# Altium footprint library Modules.PcbLib: 14 footprints (part 5 of 6)
Each footprint in its own frame and in the unit in brackets; x right, y up, seen from the top. Pads: shape width x height; smd on the part's side, far side on the other; paste and mask are expansions set on the pad; w line width, h text height; cw(c..) or ccw(c..) is an arc to the next point about the centre after c.
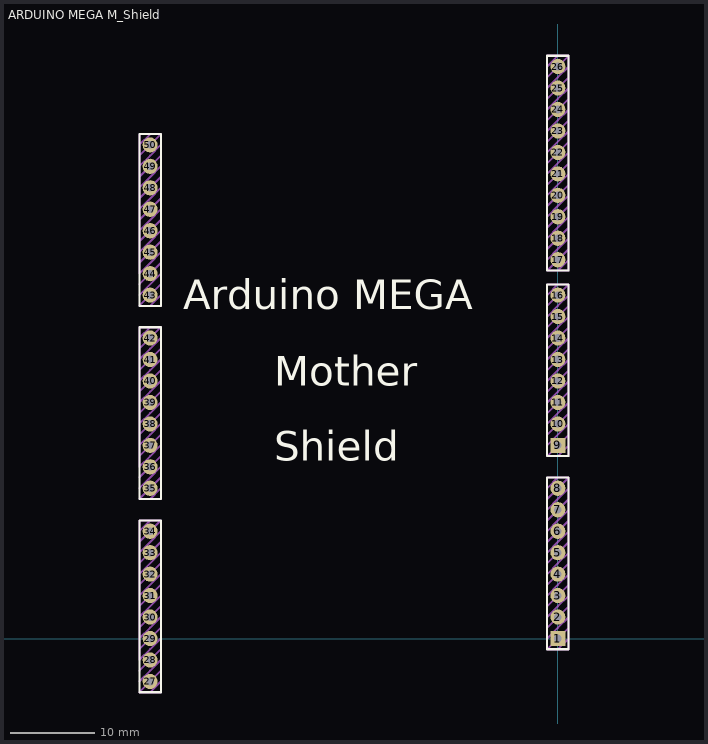
[diagram p4: the footprint, top view; thin cyan lines are the x and y axes]

## ARDUINO MEGA M_Shield [mm] "ARDUINO MEGA 2560 Full Mother Shield"
pads (50):
  rect 1.8x1.8 hole 0.9: 1(0,0) 9(0,22.86)
  round 1.8 hole 0.9: 2(0,2.54) 3(0,5.08) 4(0,7.62) 5(0,10.16) 6(0,12.7) 7(0,15.24) 8(0,17.78) 10(0,25.4) 11(0,27.94) 12(0,30.48) 13(0,33.02) 14(0,35.56) 15(0,38.1) 16(0,40.64) 17(0,44.831) 18(0,47.371) 19(0,49.911) 20(0,52.451) 21(0,54.991) 22(0,57.531) 23(0,60.071) 24(0,62.611) 25(0,65.151) 26(0,67.691) 27(-48.26,-5.08) 28(-48.26,-2.54) 29(-48.26,0) 30(-48.26,2.54) 31(-48.26,5.08) 32(-48.26,7.62) 33(-48.26,10.16) 34(-48.26,12.7) 35(-48.26,17.78) 36(-48.26,20.32) 37(-48.26,22.86) 38(-48.26,25.4) 39(-48.26,27.94) 40(-48.26,30.48) 41(-48.26,33.02) 42(-48.26,35.56) 43(-48.26,40.64) 44(-48.26,43.18) 45(-48.26,45.72) 46(-48.26,48.26) 47(-48.26,50.8) 48(-48.26,53.34) 49(-48.26,55.88) 50(-48.26,58.42)
Top Overlay:
  drawing of 313 lines, arcs and shapes, not listed
  text "Mother" at -33.59,29.91 h3.5
  text "Shield" at -33.59,21.02 h3.5
  text "Arduino MEGA" at -44.323,38.989 h3.5
Top Draw:
  drawing of 261 lines, arcs and shapes, not listed
3D body: height 8, standoff 0, extent -1.27,46.101 -0.991,48.641
3D body: height 8, standoff 0, extent -1.27,48.641 -0.991,51.181
3D body: height 8, standoff 0, extent -1.27,43.561 -0.991,46.101
3D body: height 8, standoff 0, extent -1.27,51.181 -0.991,53.721
3D body: height 8, standoff 0, extent -1.27,53.721 -0.991,56.261
3D body: height 8, standoff 7.5, extent -1.009,43.815 -0.508,45.847
3D body: height 8, standoff 7.5, extent -1.009,48.895 -0.508,50.927
3D body: height 8, standoff 7.5, extent -1.009,46.355 -0.508,48.387
3D body: height 8, standoff 7.5, extent -1.009,51.435 -0.508,53.467
3D body: height 8, standoff 7.5, extent -1.009,53.975 -0.508,56.007
3D body: height 7.5, standoff 0, extent -0.533,44.298 -0.508,45.365
3D body: height 7.5, standoff 0, extent -0.533,49.378 -0.508,50.445
3D body: height 7.5, standoff 0, extent -0.533,46.838 -0.508,47.905
3D body: height 7.5, standoff 0, extent -0.533,51.918 -0.508,52.985
3D body: height 7, standoff 0, extent -0.534,49.378 -0.483,50.445
3D body: height 7, standoff 0, extent -0.534,44.298 -0.483,45.365
3D body: height 7, standoff 0, extent -0.534,54.458 -0.483,55.525
3D body: height 7, standoff 0, extent -0.534,46.838 -0.483,47.905
3D body: height 7, standoff 0, extent -0.534,51.918 -0.483,52.985
3D body: height 7, standoff 0, extent -0.534,45.314 0.533,45.365
3D body: height 7, standoff 0, extent -0.534,50.394 0.533,50.445
3D body: height 7, standoff 0, extent -0.534,47.854 0.533,47.905
3D body: height 7, standoff 0, extent -0.534,52.934 0.533,52.985
3D body: height 7, standoff 0, extent -0.534,49.378 0.533,49.429
3D body: height 7, standoff 0, extent -0.534,44.298 0.533,44.349
3D body: height 7, standoff 0, extent -0.534,46.838 0.533,46.889
3D body: height 7, standoff 0, extent -0.534,51.918 0.533,51.969
3D body: height 7, standoff 0, extent -0.534,54.458 0.533,54.509
3D body: height 8, standoff 0, extent -1.27,56.261 -0.991,58.801
3D body: height 8, standoff 0, extent -1.27,58.801 -0.991,61.341
3D body: height 8, standoff 0, extent -1.27,61.341 -0.991,63.881
3D body: height 8, standoff 0, extent -1.27,63.881 -0.991,66.421
3D body: height 8, standoff 0, extent -1.27,66.421 -0.991,68.961
3D body: height 8, standoff 7.5, extent -1.009,56.515 -0.508,58.547
3D body: height 8, standoff 7.5, extent -1.009,61.595 -0.508,63.627
3D body: height 8, standoff 7.5, extent -1.009,64.135 -0.508,66.167
3D body: height 8, standoff 7.5, extent -1.009,59.055 -0.508,61.087
3D body: height 8, standoff 7.5, extent -1.009,66.675 -0.508,68.707
3D body: height 7.5, standoff 0, extent -0.533,54.458 -0.508,55.525
3D body: height 7.5, standoff 0, extent -0.533,59.538 -0.508,60.605
3D body: height 7.5, standoff 0, extent -0.533,56.998 -0.508,58.065
3D body: height 7.5, standoff 0, extent -0.533,62.078 -0.508,63.145
3D body: height 7.5, standoff 0, extent -0.533,64.618 -0.508,65.685
3D body: height 7.5, standoff 0, extent -0.533,67.158 -0.508,68.225
3D body: height 7, standoff 0, extent -0.534,59.538 -0.483,60.605
3D body: height 7, standoff 0, extent -0.534,56.998 -0.483,58.065
3D body: height 7, standoff 0, extent -0.534,64.618 -0.483,65.685
3D body: height 7, standoff 0, extent -0.534,62.078 -0.483,63.145
3D body: height 7, standoff 0, extent -0.534,67.158 -0.483,68.225
3D body: height 7, standoff 0, extent -0.534,55.474 0.533,55.525
3D body: height 7, standoff 0, extent -0.534,60.554 0.533,60.605
3D body: height 7, standoff 0, extent -0.534,58.014 0.533,58.065
3D body: height 7, standoff 0, extent -0.534,63.094 0.533,63.145
3D body: height 7, standoff 0, extent -0.534,65.634 0.533,65.685
3D body: height 7, standoff 0, extent -0.534,68.174 0.533,68.225
3D body: height 7, standoff 0, extent -0.534,56.998 0.533,57.049
3D body: height 7, standoff 0, extent -0.534,59.538 0.533,59.589
3D body: height 7, standoff 0, extent -0.534,62.078 0.533,62.129
3D body: height 7, standoff 0, extent -0.534,64.618 0.533,64.669
3D body: height 7, standoff 0, extent -0.534,67.158 0.533,67.209
3D body: height 1, standoff 0, extent -0.635,49.276 0.635,50.546
3D body: height 0, standoff -2.03, extent -0.127,49.657 0.127,50.165
3D body: height 0, standoff -2.03, extent -0.127,47.117 0.127,47.625
3D body: height 1, standoff 0, extent -0.635,46.736 0.635,48.006
3D body: height 0, standoff -2.03, extent -0.127,44.577 0.127,45.085
3D body: height 1, standoff 0, extent -0.635,44.196 0.635,45.466
3D body: height 0, standoff -2.03, extent -0.127,52.197 0.127,52.705
3D body: height 1, standoff 0, extent -0.635,51.816 0.635,53.086
3D body: height 1, standoff 0, extent -0.635,54.356 0.635,55.626
3D body: height 0, standoff -2.03, extent -0.127,54.737 0.127,55.245
3D body: height 7.5, standoff 0, extent -0.533,44.298 0.533,44.323
3D body: height 7.5, standoff 0, extent -0.533,49.378 0.533,49.403
3D body: height 7.5, standoff 0, extent -0.533,54.458 0.533,54.483
3D body: height 7.5, standoff 0, extent -0.533,46.838 0.533,46.863
3D body: height 8, standoff 7.5, extent -0.991,43.823 1.041,44.323
3D body: height 7, standoff 0, extent 0.482,44.298 0.533,45.365
3D body: height 7.5, standoff 0, extent -0.533,45.339 0.533,45.365
3D body: height 7.5, standoff 0, extent 0.508,44.298 0.533,45.365
3D body: height 8, standoff 0, extent 0.991,43.561 1.27,46.101
3D body: height 8, standoff 7.5, extent 0.508,43.815 1.008,45.847
3D body: height 8, standoff 7.5, extent -0.991,46.363 1.041,46.863
3D body: height 7, standoff 0, extent 0.482,46.838 0.533,47.905
3D body: height 7.5, standoff 0, extent 0.508,46.838 0.533,47.905
3D body: height 7.5, standoff 0, extent -0.533,47.879 0.533,47.905
3D body: height 8, standoff 7.5, extent -0.991,48.903 1.041,49.403
3D body: height 7, standoff 0, extent 0.482,49.378 0.533,50.445
3D body: height 7.5, standoff 0, extent -0.533,50.419 0.533,50.445
3D body: height 8, standoff 7.5, extent -0.991,51.443 1.041,51.943
3D body: height 7, standoff 0, extent 0.482,51.918 0.533,52.985
3D body: height 7.5, standoff 0, extent 0.508,51.918 0.533,52.985
3D body: height 7.5, standoff 0, extent -0.533,52.959 0.533,52.985
3D body: height 8, standoff 7.5, extent -0.991,53.983 1.041,54.483
3D body: height 7, standoff 0, extent 0.482,54.458 0.533,55.525
3D body: height 7.5, standoff 0, extent -0.533,55.499 0.533,55.525
3D body: height 8, standoff 7.5, extent -0.991,56.523 1.041,57.023
3D body: height 7, standoff 0, extent 0.482,56.998 0.533,58.065
3D body: height 7.5, standoff 0, extent -0.533,58.039 0.533,58.065
3D body: height 8, standoff 7.5, extent -0.991,59.063 1.041,59.563
3D body: height 7, standoff 0, extent 0.482,59.538 0.533,60.605
3D body: height 7.5, standoff 0, extent 0.508,59.538 0.533,60.605
3D body: height 7.5, standoff 0, extent -0.533,60.579 0.533,60.605
3D body: height 8, standoff 7.5, extent -0.991,61.603 1.041,62.103
3D body: height 7, standoff 0, extent 0.482,62.078 0.533,63.145
3D body: height 7.5, standoff 0, extent 0.508,62.078 0.533,63.145
3D body: height 7.5, standoff 0, extent -0.533,63.119 0.533,63.145
3D body: height 8, standoff 7.5, extent -0.991,64.143 1.041,64.643
3D body: height 7, standoff 0, extent 0.482,64.618 0.533,65.685
3D body: height 7.5, standoff 0, extent -0.533,65.659 0.533,65.685
3D body: height 8, standoff 7.5, extent -0.991,66.683 1.041,67.183
3D body: height 7, standoff 0, extent 0.482,67.158 0.533,68.225
3D body: height 7.5, standoff 0, extent 0.508,67.158 0.533,68.225
3D body: height 7.5, standoff 0, extent -0.533,68.199 0.533,68.225
3D body: height 8, standoff 0, extent 0.991,46.101 1.27,48.641
3D body: height 8, standoff 7.5, extent 0.508,46.355 1.008,48.387
3D body: height 7.5, standoff 0, extent 0.508,49.378 0.533,50.445
3D body: height 8, standoff 0, extent 0.991,48.641 1.27,51.181
3D body: height 8, standoff 7.5, extent 0.508,48.895 1.008,50.927
3D body: height 8, standoff 0, extent 0.991,51.181 1.27,53.721
3D body: height 8, standoff 7.5, extent 0.508,51.435 1.008,53.467
3D body: height 7.5, standoff 0, extent 0.508,54.458 0.533,55.525
3D body: height 8, standoff 0, extent 0.991,53.721 1.27,56.261
3D body: height 8, standoff 7.5, extent 0.508,53.975 1.008,56.007
3D body: height 7.5, standoff 0, extent 0.508,56.998 0.533,58.065
3D body: height 8, standoff 0, extent 0.991,56.261 1.27,58.801
3D body: height 8, standoff 7.5, extent 0.508,56.515 1.008,58.547
3D body: height 8, standoff 0, extent 0.991,58.801 1.27,61.341
3D body: height 8, standoff 7.5, extent 0.508,59.055 1.008,61.087
3D body: height 8, standoff 0, extent 0.991,61.341 1.27,63.881
3D body: height 8, standoff 7.5, extent 0.508,61.595 1.008,63.627
3D body: height 7.5, standoff 0, extent 0.508,64.618 0.533,65.685
3D body: height 8, standoff 0, extent 0.991,63.881 1.27,66.421
3D body: height 8, standoff 7.5, extent 0.508,64.135 1.008,66.167
3D body: height 8, standoff 0, extent 0.991,66.421 1.27,68.961
3D body: height 8, standoff 7.5, extent 0.508,66.675 1.008,68.707
3D body: height 0, standoff -2.03, extent -0.127,57.277 0.127,57.785
3D body: height 1, standoff 0, extent -0.635,56.896 0.635,58.166
3D body: height 1, standoff 0, extent -0.635,59.436 0.635,60.706
3D body: height 0, standoff -2.03, extent -0.127,59.817 0.127,60.325
3D body: height 0, standoff -2.03, extent -0.127,67.437 0.127,67.945
3D body: height 1, standoff 0, extent -0.635,67.056 0.635,68.326
3D body: height 0, standoff -2.03, extent -0.127,64.897 0.127,65.405
3D body: height 0, standoff -2.03, extent -0.127,62.357 0.127,62.865
3D body: height 1, standoff 0, extent -0.635,61.976 0.635,63.246
3D body: height 1, standoff 0, extent -0.635,64.516 0.635,65.786
3D body: height 7.5, standoff 0, extent -0.533,59.538 0.533,59.563
3D body: height 8, standoff 7.5, extent -1.016,55.499 1.016,56
3D body: height 7.5, standoff 0, extent -0.533,56.998 0.533,57.023
3D body: height 8, standoff 7.5, extent -1.016,58.039 1.016,58.54
3D body: height 8, standoff 7.5, extent -1.016,65.659 1.016,66.16
3D body: height 8, standoff 7.5, extent -1.016,68.199 1.016,68.7
3D body: height 8, standoff 7.5, extent -1.016,50.419 1.016,50.92
3D body: height 8, standoff 7.5, extent -1.016,45.339 1.016,45.84
3D body: height 8, standoff 7.5, extent -1.016,47.879 1.016,48.38
3D body: height 7.5, standoff 0, extent -0.533,51.918 0.533,51.943
3D body: height 8, standoff 7.5, extent -1.016,52.959 1.016,53.46
3D body: height 8, standoff 0, extent -1.27,43.561 1.27,43.841
3D body: height 8, standoff 0, extent -1.27,46.101 1.27,46.381
3D body: height 8, standoff 0, extent -1.27,45.822 1.27,46.101
3D body: height 8, standoff 0, extent -1.27,48.641 1.27,48.921
3D body: height 8, standoff 0, extent -1.27,50.902 1.27,51.181
3D body: height 8, standoff 0, extent -1.27,48.362 1.27,48.641
3D body: height 8, standoff 0, extent -1.27,51.181 1.27,51.461
3D body: height 8, standoff 0, extent -1.27,53.442 1.27,53.721
3D body: height 8, standoff 0, extent -1.27,53.721 1.27,54.001
3D body: height 7.5, standoff 0, extent -0.533,67.158 0.533,67.183
3D body: height 8, standoff 7.5, extent -1.016,63.119 1.016,63.62
3D body: height 7.5, standoff 0, extent -0.533,62.078 0.533,62.103
3D body: height 8, standoff 7.5, extent -1.016,60.579 1.016,61.08
3D body: height 7.5, standoff 0, extent -0.533,64.618 0.533,64.643
3D body: height 8, standoff 0, extent -1.27,55.982 1.27,56.261
3D body: height 8, standoff 0, extent -1.27,56.261 1.27,56.541
3D body: height 8, standoff 0, extent -1.27,58.522 1.27,58.801
3D body: height 8, standoff 0, extent -1.27,58.801 1.27,59.081
3D body: height 8, standoff 0, extent -1.27,61.341 1.27,61.621
3D body: height 8, standoff 0, extent -1.27,63.881 1.27,64.161
3D body: height 8, standoff 0, extent -1.27,66.142 1.27,66.421
3D body: height 8, standoff 0, extent -1.27,61.062 1.27,61.341
3D body: height 8, standoff 0, extent -1.27,68.682 1.27,68.961
3D body: height 8, standoff 0, extent -1.27,66.421 1.27,66.701
3D body: height 8, standoff 0, extent -1.27,63.602 1.27,63.881
3D body: height 7.5, standoff 0, extent -48.793,57.887 -47.727,57.912
3D body: height 8, standoff 0, extent -47.269,57.15 -46.99,59.69
3D body: height 8, standoff 0, extent -49.53,59.411 -46.99,59.69
3D body: height 0, standoff -2.03, extent -48.387,58.166 -48.133,58.674
3D body: height 8, standoff 0, extent -49.53,57.15 -46.99,57.43
3D body: height 7, standoff 0, extent -48.794,57.887 -47.727,57.938
3D body: height 7, standoff 0, extent -47.778,57.887 -47.727,58.954
3D body: height 7, standoff 0, extent -48.794,58.903 -47.727,58.954
3D body: height 7, standoff 0, extent -48.794,57.887 -48.743,58.954
3D body: height 1, standoff 0, extent -48.895,57.785 -47.625,59.055
3D body: height 8, standoff 0, extent -49.53,57.15 -49.251,59.69
3D body: height 8, standoff 7.5, extent -49.251,57.412 -47.219,57.912
3D body: height 8, standoff 7.5, extent -49.269,57.404 -48.768,59.436
3D body: height 8, standoff 7.5, extent -49.276,58.928 -47.244,59.429
3D body: height 8, standoff 7.5, extent -47.752,57.404 -47.252,59.436
3D body: height 7.5, standoff 0, extent -47.752,57.887 -47.727,58.954
3D body: height 7.5, standoff 0, extent -48.793,57.887 -48.768,58.954
3D body: height 7.5, standoff 0, extent -48.793,58.928 -47.727,58.954
3D body: height 7.5, standoff 0, extent -48.793,55.347 -47.727,55.372
3D body: height 8, standoff 0, extent -47.269,54.61 -46.99,57.15
3D body: height 8, standoff 0, extent -49.53,56.871 -46.99,57.15
3D body: height 0, standoff -2.03, extent -48.387,55.626 -48.133,56.134
3D body: height 8, standoff 0, extent -49.53,54.61 -46.99,54.89
3D body: height 7, standoff 0, extent -48.794,55.347 -47.727,55.398
3D body: height 7, standoff 0, extent -47.778,55.347 -47.727,56.414
3D body: height 7, standoff 0, extent -48.794,56.363 -47.727,56.414
3D body: height 7, standoff 0, extent -48.794,55.347 -48.743,56.414
3D body: height 1, standoff 0, extent -48.895,55.245 -47.625,56.515
3D body: height 8, standoff 0, extent -49.53,54.61 -49.251,57.15
3D body: height 8, standoff 7.5, extent -49.251,54.872 -47.219,55.372
3D body: height 8, standoff 7.5, extent -49.269,54.864 -48.768,56.896
3D body: height 8, standoff 7.5, extent -49.276,56.388 -47.244,56.889
3D body: height 8, standoff 7.5, extent -47.752,54.864 -47.252,56.896
3D body: height 7.5, standoff 0, extent -47.752,55.347 -47.727,56.414
3D body: height 7.5, standoff 0, extent -48.793,55.347 -48.768,56.414
3D body: height 7.5, standoff 0, extent -48.793,56.388 -47.727,56.414
3D body: height 7.5, standoff 0, extent -48.793,52.807 -47.727,52.832
3D body: height 8, standoff 0, extent -47.269,52.07 -46.99,54.61
3D body: height 8, standoff 0, extent -49.53,54.331 -46.99,54.61
3D body: height 0, standoff -2.03, extent -48.387,53.086 -48.133,53.594
3D body: height 8, standoff 0, extent -49.53,52.07 -46.99,52.35
3D body: height 7, standoff 0, extent -48.794,52.807 -47.727,52.858
3D body: height 7, standoff 0, extent -47.778,52.807 -47.727,53.874
3D body: height 7, standoff 0, extent -48.794,53.823 -47.727,53.874
3D body: height 7, standoff 0, extent -48.794,52.807 -48.743,53.874
3D body: height 1, standoff 0, extent -48.895,52.705 -47.625,53.975
3D body: height 8, standoff 0, extent -49.53,52.07 -49.251,54.61
3D body: height 8, standoff 7.5, extent -49.251,52.332 -47.219,52.832
3D body: height 8, standoff 7.5, extent -49.269,52.324 -48.768,54.356
3D body: height 8, standoff 7.5, extent -49.276,53.848 -47.244,54.349
3D body: height 8, standoff 7.5, extent -47.752,52.324 -47.252,54.356
3D body: height 7.5, standoff 0, extent -47.752,52.807 -47.727,53.874
3D body: height 7.5, standoff 0, extent -48.793,52.807 -48.768,53.874
3D body: height 7.5, standoff 0, extent -48.793,53.848 -47.727,53.874
3D body: height 7.5, standoff 0, extent -48.793,50.267 -47.727,50.292
3D body: height 8, standoff 0, extent -47.269,49.53 -46.99,52.07
3D body: height 8, standoff 0, extent -49.53,51.791 -46.99,52.07
3D body: height 0, standoff -2.03, extent -48.387,50.546 -48.133,51.054
3D body: height 8, standoff 0, extent -49.53,49.53 -46.99,49.81
3D body: height 7, standoff 0, extent -48.794,50.267 -47.727,50.318
3D body: height 7, standoff 0, extent -47.778,50.267 -47.727,51.334
3D body: height 7, standoff 0, extent -48.794,51.283 -47.727,51.334
3D body: height 7, standoff 0, extent -48.794,50.267 -48.743,51.334
3D body: height 1, standoff 0, extent -48.895,50.165 -47.625,51.435
3D body: height 8, standoff 0, extent -49.53,49.53 -49.251,52.07
3D body: height 8, standoff 7.5, extent -49.251,49.792 -47.219,50.292
3D body: height 8, standoff 7.5, extent -49.269,49.784 -48.768,51.816
3D body: height 8, standoff 7.5, extent -49.276,51.308 -47.244,51.809
3D body: height 8, standoff 7.5, extent -47.752,49.784 -47.252,51.816
3D body: height 7.5, standoff 0, extent -47.752,50.267 -47.727,51.334
3D body: height 7.5, standoff 0, extent -48.793,50.267 -48.768,51.334
3D body: height 7.5, standoff 0, extent -48.793,51.308 -47.727,51.334
3D body: height 7.5, standoff 0, extent -48.793,47.727 -47.727,47.752
3D body: height 8, standoff 0, extent -47.269,46.99 -46.99,49.53
3D body: height 8, standoff 0, extent -49.53,49.251 -46.99,49.53
3D body: height 0, standoff -2.03, extent -48.387,48.006 -48.133,48.514
3D body: height 8, standoff 0, extent -49.53,46.99 -46.99,47.27
3D body: height 7, standoff 0, extent -48.794,47.727 -47.727,47.778
3D body: height 7, standoff 0, extent -47.778,47.727 -47.727,48.794
3D body: height 7, standoff 0, extent -48.794,48.743 -47.727,48.794
3D body: height 7, standoff 0, extent -48.794,47.727 -48.743,48.794
3D body: height 1, standoff 0, extent -48.895,47.625 -47.625,48.895
3D body: height 8, standoff 0, extent -49.53,46.99 -49.251,49.53
3D body: height 8, standoff 7.5, extent -49.251,47.252 -47.219,47.752
3D body: height 8, standoff 7.5, extent -49.269,47.244 -48.768,49.276
3D body: height 8, standoff 7.5, extent -49.276,48.768 -47.244,49.269
3D body: height 8, standoff 7.5, extent -47.752,47.244 -47.252,49.276
3D body: height 7.5, standoff 0, extent -47.752,47.727 -47.727,48.794
3D body: height 7.5, standoff 0, extent -48.793,47.727 -48.768,48.794
3D body: height 7.5, standoff 0, extent -48.793,48.768 -47.727,48.794
3D body: height 7.5, standoff 0, extent -48.793,45.187 -47.727,45.212
3D body: height 8, standoff 0, extent -47.269,44.45 -46.99,46.99
3D body: height 8, standoff 0, extent -49.53,46.711 -46.99,46.99
3D body: height 0, standoff -2.03, extent -48.387,45.466 -48.133,45.974
3D body: height 8, standoff 0, extent -49.53,44.45 -46.99,44.73
3D body: height 7, standoff 0, extent -48.794,45.187 -47.727,45.238
3D body: height 7, standoff 0, extent -47.778,45.187 -47.727,46.254
3D body: height 7, standoff 0, extent -48.794,46.203 -47.727,46.254
3D body: height 7, standoff 0, extent -48.794,45.187 -48.743,46.254
3D body: height 1, standoff 0, extent -48.895,45.085 -47.625,46.355
3D body: height 8, standoff 0, extent -49.53,44.45 -49.251,46.99
3D body: height 8, standoff 7.5, extent -49.251,44.712 -47.219,45.212
3D body: height 8, standoff 7.5, extent -49.269,44.704 -48.768,46.736
3D body: height 8, standoff 7.5, extent -49.276,46.228 -47.244,46.729
3D body: height 8, standoff 7.5, extent -47.752,44.704 -47.252,46.736
3D body: height 7.5, standoff 0, extent -47.752,45.187 -47.727,46.254
3D body: height 7.5, standoff 0, extent -48.793,45.187 -48.768,46.254
3D body: height 7.5, standoff 0, extent -48.793,46.228 -47.727,46.254
3D body: height 7.5, standoff 0, extent -48.793,42.647 -47.727,42.672
3D body: height 8, standoff 0, extent -47.269,41.91 -46.99,44.45
3D body: height 8, standoff 0, extent -49.53,44.171 -46.99,44.45
3D body: height 0, standoff -2.03, extent -48.387,42.926 -48.133,43.434
3D body: height 8, standoff 0, extent -49.53,41.91 -46.99,42.19
3D body: height 7, standoff 0, extent -48.794,42.647 -47.727,42.698
3D body: height 7, standoff 0, extent -47.778,42.647 -47.727,43.714
3D body: height 7, standoff 0, extent -48.794,43.663 -47.727,43.714
3D body: height 7, standoff 0, extent -48.794,42.647 -48.743,43.714
3D body: height 1, standoff 0, extent -48.895,42.545 -47.625,43.815
3D body: height 8, standoff 0, extent -49.53,41.91 -49.251,44.45
3D body: height 8, standoff 7.5, extent -49.251,42.172 -47.219,42.672
3D body: height 8, standoff 7.5, extent -49.269,42.164 -48.768,44.196
3D body: height 8, standoff 7.5, extent -49.276,43.688 -47.244,44.189
3D body: height 8, standoff 7.5, extent -47.752,42.164 -47.252,44.196
3D body: height 7.5, standoff 0, extent -47.752,42.647 -47.727,43.714
3D body: height 7.5, standoff 0, extent -48.793,42.647 -48.768,43.714
3D body: height 7.5, standoff 0, extent -48.793,43.688 -47.727,43.714
3D body: height 7.5, standoff 0, extent -48.793,40.107 -47.727,40.132
3D body: height 8, standoff 0, extent -47.269,39.37 -46.99,41.91
3D body: height 8, standoff 0, extent -49.53,41.631 -46.99,41.91
3D body: height 0, standoff -2.03, extent -48.387,40.386 -48.133,40.894
3D body: height 8, standoff 0, extent -49.53,39.37 -46.99,39.65
3D body: height 7, standoff 0, extent -48.794,40.107 -47.727,40.158
3D body: height 7, standoff 0, extent -47.778,40.107 -47.727,41.174
3D body: height 7, standoff 0, extent -48.794,41.123 -47.727,41.174
3D body: height 7, standoff 0, extent -48.794,40.107 -48.743,41.174
3D body: height 1, standoff 0, extent -48.895,40.005 -47.625,41.275
3D body: height 8, standoff 0, extent -49.53,39.37 -49.251,41.91
3D body: height 8, standoff 7.5, extent -49.251,39.632 -47.219,40.132
3D body: height 8, standoff 7.5, extent -49.269,39.624 -48.768,41.656
3D body: height 8, standoff 7.5, extent -49.276,41.148 -47.244,41.649
3D body: height 8, standoff 7.5, extent -47.752,39.624 -47.252,41.656
3D body: height 7.5, standoff 0, extent -47.752,40.107 -47.727,41.174
3D body: height 7.5, standoff 0, extent -48.793,40.107 -48.768,41.174
3D body: height 7.5, standoff 0, extent -48.793,41.148 -47.727,41.174
3D body: height 7.5, standoff 0, extent -48.793,35.027 -47.727,35.052
3D body: height 8, standoff 0, extent -47.269,34.29 -46.99,36.83
3D body: height 8, standoff 0, extent -49.53,36.551 -46.99,36.83
3D body: height 0, standoff -2.03, extent -48.387,35.306 -48.133,35.814
3D body: height 8, standoff 0, extent -49.53,34.29 -46.99,34.57
3D body: height 7, standoff 0, extent -48.794,35.027 -47.727,35.078
3D body: height 7, standoff 0, extent -47.778,35.027 -47.727,36.094
3D body: height 7, standoff 0, extent -48.794,36.043 -47.727,36.094
3D body: height 7, standoff 0, extent -48.794,35.027 -48.743,36.094
3D body: height 1, standoff 0, extent -48.895,34.925 -47.625,36.195
3D body: height 8, standoff 0, extent -49.53,34.29 -49.251,36.83
3D body: height 8, standoff 7.5, extent -49.251,34.552 -47.219,35.052
3D body: height 8, standoff 7.5, extent -49.269,34.544 -48.768,36.576
3D body: height 8, standoff 7.5, extent -49.276,36.068 -47.244,36.569
3D body: height 8, standoff 7.5, extent -47.752,34.544 -47.252,36.576
3D body: height 7.5, standoff 0, extent -47.752,35.027 -47.727,36.094
3D body: height 7.5, standoff 0, extent -48.793,35.027 -48.768,36.094
3D body: height 7.5, standoff 0, extent -48.793,36.068 -47.727,36.094
3D body: height 7.5, standoff 0, extent -48.793,32.487 -47.727,32.512
3D body: height 8, standoff 0, extent -47.269,31.75 -46.99,34.29
3D body: height 8, standoff 0, extent -49.53,34.011 -46.99,34.29
3D body: height 0, standoff -2.03, extent -48.387,32.766 -48.133,33.274
3D body: height 8, standoff 0, extent -49.53,31.75 -46.99,32.03
3D body: height 7, standoff 0, extent -48.794,32.487 -47.727,32.538
3D body: height 7, standoff 0, extent -47.778,32.487 -47.727,33.554
3D body: height 7, standoff 0, extent -48.794,33.503 -47.727,33.554
3D body: height 7, standoff 0, extent -48.794,32.487 -48.743,33.554
3D body: height 1, standoff 0, extent -48.895,32.385 -47.625,33.655
3D body: height 8, standoff 0, extent -49.53,31.75 -49.251,34.29
3D body: height 8, standoff 7.5, extent -49.251,32.012 -47.219,32.512
3D body: height 8, standoff 7.5, extent -49.269,32.004 -48.768,34.036
3D body: height 8, standoff 7.5, extent -49.276,33.528 -47.244,34.029
3D body: height 8, standoff 7.5, extent -47.752,32.004 -47.252,34.036
3D body: height 7.5, standoff 0, extent -47.752,32.487 -47.727,33.554
3D body: height 7.5, standoff 0, extent -48.793,32.487 -48.768,33.554
3D body: height 7.5, standoff 0, extent -48.793,33.528 -47.727,33.554
3D body: height 7.5, standoff 0, extent -48.793,29.947 -47.727,29.972
3D body: height 8, standoff 0, extent -47.269,29.21 -46.99,31.75
3D body: height 8, standoff 0, extent -49.53,31.471 -46.99,31.75
3D body: height 0, standoff -2.03, extent -48.387,30.226 -48.133,30.734
3D body: height 8, standoff 0, extent -49.53,29.21 -46.99,29.49
3D body: height 7, standoff 0, extent -48.794,29.947 -47.727,29.998
3D body: height 7, standoff 0, extent -47.778,29.947 -47.727,31.014
3D body: height 7, standoff 0, extent -48.794,30.963 -47.727,31.014
3D body: height 7, standoff 0, extent -48.794,29.947 -48.743,31.014
3D body: height 1, standoff 0, extent -48.895,29.845 -47.625,31.115
3D body: height 8, standoff 0, extent -49.53,29.21 -49.251,31.75
3D body: height 8, standoff 7.5, extent -49.251,29.472 -47.219,29.972
3D body: height 8, standoff 7.5, extent -49.269,29.464 -48.768,31.496
3D body: height 8, standoff 7.5, extent -49.276,30.988 -47.244,31.489
3D body: height 8, standoff 7.5, extent -47.752,29.464 -47.252,31.496
3D body: height 7.5, standoff 0, extent -47.752,29.947 -47.727,31.014
3D body: height 7.5, standoff 0, extent -48.793,29.947 -48.768,31.014
3D body: height 7.5, standoff 0, extent -48.793,30.988 -47.727,31.014
3D body: height 7.5, standoff 0, extent -48.793,27.407 -47.727,27.432
3D body: height 8, standoff 0, extent -47.269,26.67 -46.99,29.21
3D body: height 8, standoff 0, extent -49.53,28.931 -46.99,29.21
3D body: height 0, standoff -2.03, extent -48.387,27.686 -48.133,28.194
3D body: height 8, standoff 0, extent -49.53,26.67 -46.99,26.95
3D body: height 7, standoff 0, extent -48.794,27.407 -47.727,27.458
3D body: height 7, standoff 0, extent -47.778,27.407 -47.727,28.474
3D body: height 7, standoff 0, extent -48.794,28.423 -47.727,28.474
3D body: height 7, standoff 0, extent -48.794,27.407 -48.743,28.474
3D body: height 1, standoff 0, extent -48.895,27.305 -47.625,28.575
3D body: height 8, standoff 0, extent -49.53,26.67 -49.251,29.21
3D body: height 8, standoff 7.5, extent -49.251,26.932 -47.219,27.432
3D body: height 8, standoff 7.5, extent -49.269,26.924 -48.768,28.956
3D body: height 8, standoff 7.5, extent -49.276,28.448 -47.244,28.949
3D body: height 8, standoff 7.5, extent -47.752,26.924 -47.252,28.956
3D body: height 7.5, standoff 0, extent -47.752,27.407 -47.727,28.474
3D body: height 7.5, standoff 0, extent -48.793,27.407 -48.768,28.474
3D body: height 7.5, standoff 0, extent -48.793,28.448 -47.727,28.474
3D body: height 7.5, standoff 0, extent -48.793,24.867 -47.727,24.892
3D body: height 8, standoff 0, extent -47.269,24.13 -46.99,26.67
3D body: height 8, standoff 0, extent -49.53,26.391 -46.99,26.67
3D body: height 0, standoff -2.03, extent -48.387,25.146 -48.133,25.654
3D body: height 8, standoff 0, extent -49.53,24.13 -46.99,24.41
3D body: height 7, standoff 0, extent -48.794,24.867 -47.727,24.918
3D body: height 7, standoff 0, extent -47.778,24.867 -47.727,25.934
3D body: height 7, standoff 0, extent -48.794,25.883 -47.727,25.934
3D body: height 7, standoff 0, extent -48.794,24.867 -48.743,25.934
3D body: height 1, standoff 0, extent -48.895,24.765 -47.625,26.035
3D body: height 8, standoff 0, extent -49.53,24.13 -49.251,26.67
3D body: height 8, standoff 7.5, extent -49.251,24.392 -47.219,24.892
3D body: height 8, standoff 7.5, extent -49.269,24.384 -48.768,26.416
3D body: height 8, standoff 7.5, extent -49.276,25.908 -47.244,26.409
3D body: height 8, standoff 7.5, extent -47.752,24.384 -47.252,26.416
3D body: height 7.5, standoff 0, extent -47.752,24.867 -47.727,25.934
3D body: height 7.5, standoff 0, extent -48.793,24.867 -48.768,25.934
3D body: height 7.5, standoff 0, extent -48.793,25.908 -47.727,25.934
3D body: height 7.5, standoff 0, extent -48.793,22.327 -47.727,22.352
3D body: height 8, standoff 0, extent -47.269,21.59 -46.99,24.13
3D body: height 8, standoff 0, extent -49.53,23.851 -46.99,24.13
3D body: height 0, standoff -2.03, extent -48.387,22.606 -48.133,23.114
3D body: height 8, standoff 0, extent -49.53,21.59 -46.99,21.87
3D body: height 7, standoff 0, extent -48.794,22.327 -47.727,22.378
3D body: height 7, standoff 0, extent -47.778,22.327 -47.727,23.394
3D body: height 7, standoff 0, extent -48.794,23.343 -47.727,23.394
3D body: height 7, standoff 0, extent -48.794,22.327 -48.743,23.394
3D body: height 1, standoff 0, extent -48.895,22.225 -47.625,23.495
3D body: height 8, standoff 0, extent -49.53,21.59 -49.251,24.13
3D body: height 8, standoff 7.5, extent -49.251,21.852 -47.219,22.352
3D body: height 8, standoff 7.5, extent -49.269,21.844 -48.768,23.876
3D body: height 8, standoff 7.5, extent -49.276,23.368 -47.244,23.869
3D body: height 8, standoff 7.5, extent -47.752,21.844 -47.252,23.876
3D body: height 7.5, standoff 0, extent -47.752,22.327 -47.727,23.394
3D body: height 7.5, standoff 0, extent -48.793,22.327 -48.768,23.394
3D body: height 7.5, standoff 0, extent -48.793,23.368 -47.727,23.394
3D body: height 7.5, standoff 0, extent -48.793,19.787 -47.727,19.812
3D body: height 8, standoff 0, extent -47.269,19.05 -46.99,21.59
3D body: height 8, standoff 0, extent -49.53,21.311 -46.99,21.59
3D body: height 0, standoff -2.03, extent -48.387,20.066 -48.133,20.574
3D body: height 8, standoff 0, extent -49.53,19.05 -46.99,19.33
3D body: height 7, standoff 0, extent -48.794,19.787 -47.727,19.838
3D body: height 7, standoff 0, extent -47.778,19.787 -47.727,20.854
3D body: height 7, standoff 0, extent -48.794,20.803 -47.727,20.854
3D body: height 7, standoff 0, extent -48.794,19.787 -48.743,20.854
3D body: height 1, standoff 0, extent -48.895,19.685 -47.625,20.955
3D body: height 8, standoff 0, extent -49.53,19.05 -49.251,21.59
3D body: height 8, standoff 7.5, extent -49.251,19.312 -47.219,19.812
3D body: height 8, standoff 7.5, extent -49.269,19.304 -48.768,21.336
3D body: height 8, standoff 7.5, extent -49.276,20.828 -47.244,21.329
3D body: height 8, standoff 7.5, extent -47.752,19.304 -47.252,21.336
3D body: height 7.5, standoff 0, extent -47.752,19.787 -47.727,20.854
3D body: height 7.5, standoff 0, extent -48.793,19.787 -48.768,20.854
3D body: height 7.5, standoff 0, extent -48.793,20.828 -47.727,20.854
3D body: height 7.5, standoff 0, extent -48.793,17.247 -47.727,17.272
3D body: height 8, standoff 0, extent -47.269,16.51 -46.99,19.05
3D body: height 8, standoff 0, extent -49.53,18.771 -46.99,19.05
3D body: height 0, standoff -2.03, extent -48.387,17.526 -48.133,18.034
3D body: height 8, standoff 0, extent -49.53,16.51 -46.99,16.79
3D body: height 7, standoff 0, extent -48.794,17.247 -47.727,17.298
3D body: height 7, standoff 0, extent -47.778,17.247 -47.727,18.314
3D body: height 7, standoff 0, extent -48.794,18.263 -47.727,18.314
3D body: height 7, standoff 0, extent -48.794,17.247 -48.743,18.314
3D body: height 1, standoff 0, extent -48.895,17.145 -47.625,18.415
3D body: height 8, standoff 0, extent -49.53,16.51 -49.251,19.05
3D body: height 8, standoff 7.5, extent -49.251,16.772 -47.219,17.272
3D body: height 8, standoff 7.5, extent -49.269,16.764 -48.768,18.796
3D body: height 8, standoff 7.5, extent -49.276,18.288 -47.244,18.789
3D body: height 8, standoff 7.5, extent -47.752,16.764 -47.252,18.796
3D body: height 7.5, standoff 0, extent -47.752,17.247 -47.727,18.314
3D body: height 7.5, standoff 0, extent -48.793,17.247 -48.768,18.314
3D body: height 7.5, standoff 0, extent -48.793,18.288 -47.727,18.314
3D body: height 7.5, standoff 0, extent -48.793,12.167 -47.727,12.192
3D body: height 8, standoff 0, extent -47.269,11.43 -46.99,13.97
3D body: height 8, standoff 0, extent -49.53,13.691 -46.99,13.97
3D body: height 0, standoff -2.03, extent -48.387,12.446 -48.133,12.954
3D body: height 8, standoff 0, extent -49.53,11.43 -46.99,11.71
3D body: height 7, standoff 0, extent -48.794,12.167 -47.727,12.218
3D body: height 7, standoff 0, extent -47.778,12.167 -47.727,13.234
3D body: height 7, standoff 0, extent -48.794,13.183 -47.727,13.234
3D body: height 7, standoff 0, extent -48.794,12.167 -48.743,13.234
3D body: height 1, standoff 0, extent -48.895,12.065 -47.625,13.335
3D body: height 8, standoff 0, extent -49.53,11.43 -49.251,13.97
3D body: height 8, standoff 7.5, extent -49.251,11.692 -47.219,12.192
3D body: height 8, standoff 7.5, extent -49.269,11.684 -48.768,13.716
3D body: height 8, standoff 7.5, extent -49.276,13.208 -47.244,13.709
3D body: height 8, standoff 7.5, extent -47.752,11.684 -47.252,13.716
3D body: height 7.5, standoff 0, extent -47.752,12.167 -47.727,13.234
3D body: height 7.5, standoff 0, extent -48.793,12.167 -48.768,13.234
3D body: height 7.5, standoff 0, extent -48.793,13.208 -47.727,13.234
3D body: height 7.5, standoff 0, extent -48.793,9.627 -47.727,9.652
3D body: height 8, standoff 0, extent -47.269,8.89 -46.99,11.43
3D body: height 8, standoff 0, extent -49.53,11.151 -46.99,11.43
3D body: height 0, standoff -2.03, extent -48.387,9.906 -48.133,10.414
3D body: height 8, standoff 0, extent -49.53,8.89 -46.99,9.17
3D body: height 7, standoff 0, extent -48.794,9.627 -47.727,9.678
3D body: height 7, standoff 0, extent -47.778,9.627 -47.727,10.694
3D body: height 7, standoff 0, extent -48.794,10.643 -47.727,10.694
3D body: height 7, standoff 0, extent -48.794,9.627 -48.743,10.694
3D body: height 1, standoff 0, extent -48.895,9.525 -47.625,10.795
3D body: height 8, standoff 0, extent -49.53,8.89 -49.251,11.43
3D body: height 8, standoff 7.5, extent -49.251,9.152 -47.219,9.652
3D body: height 8, standoff 7.5, extent -49.269,9.144 -48.768,11.176
3D body: height 8, standoff 7.5, extent -49.276,10.668 -47.244,11.169
3D body: height 8, standoff 7.5, extent -47.752,9.144 -47.252,11.176
3D body: height 7.5, standoff 0, extent -47.752,9.627 -47.727,10.694
3D body: height 7.5, standoff 0, extent -48.793,9.627 -48.768,10.694
3D body: height 7.5, standoff 0, extent -48.793,10.668 -47.727,10.694
3D body: height 7.5, standoff 0, extent -48.793,7.087 -47.727,7.112
3D body: height 8, standoff 0, extent -47.269,6.35 -46.99,8.89
3D body: height 8, standoff 0, extent -49.53,8.611 -46.99,8.89
3D body: height 0, standoff -2.03, extent -48.387,7.366 -48.133,7.874
3D body: height 8, standoff 0, extent -49.53,6.35 -46.99,6.63
3D body: height 7, standoff 0, extent -48.794,7.087 -47.727,7.138
3D body: height 7, standoff 0, extent -47.778,7.087 -47.727,8.154
3D body: height 7, standoff 0, extent -48.794,8.103 -47.727,8.154
3D body: height 7, standoff 0, extent -48.794,7.087 -48.743,8.154
3D body: height 1, standoff 0, extent -48.895,6.985 -47.625,8.255
3D body: height 8, standoff 0, extent -49.53,6.35 -49.251,8.89
3D body: height 8, standoff 7.5, extent -49.251,6.612 -47.219,7.112
3D body: height 8, standoff 7.5, extent -49.269,6.604 -48.768,8.636
3D body: height 8, standoff 7.5, extent -49.276,8.128 -47.244,8.629
3D body: height 8, standoff 7.5, extent -47.752,6.604 -47.252,8.636
3D body: height 7.5, standoff 0, extent -47.752,7.087 -47.727,8.154
3D body: height 7.5, standoff 0, extent -48.793,7.087 -48.768,8.154
3D body: height 7.5, standoff 0, extent -48.793,8.128 -47.727,8.154
3D body: height 7.5, standoff 0, extent -48.793,4.547 -47.727,4.572
3D body: height 8, standoff 0, extent -47.269,3.81 -46.99,6.35
3D body: height 8, standoff 0, extent -49.53,6.071 -46.99,6.35
3D body: height 0, standoff -2.03, extent -48.387,4.826 -48.133,5.334
3D body: height 8, standoff 0, extent -49.53,3.81 -46.99,4.09
3D body: height 7, standoff 0, extent -48.794,4.547 -47.727,4.598
3D body: height 7, standoff 0, extent -47.778,4.547 -47.727,5.614
3D body: height 7, standoff 0, extent -48.794,5.563 -47.727,5.614
3D body: height 7, standoff 0, extent -48.794,4.547 -48.743,5.614
3D body: height 1, standoff 0, extent -48.895,4.445 -47.625,5.715
3D body: height 8, standoff 0, extent -49.53,3.81 -49.251,6.35
3D body: height 8, standoff 7.5, extent -49.251,4.072 -47.219,4.572
3D body: height 8, standoff 7.5, extent -49.269,4.064 -48.768,6.096
3D body: height 8, standoff 7.5, extent -49.276,5.588 -47.244,6.089
3D body: height 8, standoff 7.5, extent -47.752,4.064 -47.252,6.096
3D body: height 7.5, standoff 0, extent -47.752,4.547 -47.727,5.614
3D body: height 7.5, standoff 0, extent -48.793,4.547 -48.768,5.614
3D body: height 7.5, standoff 0, extent -48.793,5.588 -47.727,5.614
3D body: height 7.5, standoff 0, extent -48.793,2.007 -47.727,2.032
3D body: height 8, standoff 0, extent -47.269,1.27 -46.99,3.81
3D body: height 8, standoff 0, extent -49.53,3.531 -46.99,3.81
3D body: height 0, standoff -2.03, extent -48.387,2.286 -48.133,2.794
3D body: height 8, standoff 0, extent -49.53,1.27 -46.99,1.55
3D body: height 7, standoff 0, extent -48.794,2.007 -47.727,2.058
3D body: height 7, standoff 0, extent -47.778,2.007 -47.727,3.074
3D body: height 7, standoff 0, extent -48.794,3.023 -47.727,3.074
3D body: height 7, standoff 0, extent -48.794,2.007 -48.743,3.074
3D body: height 1, standoff 0, extent -48.895,1.905 -47.625,3.175
3D body: height 8, standoff 0, extent -49.53,1.27 -49.251,3.81
3D body: height 8, standoff 7.5, extent -49.251,1.532 -47.219,2.032
3D body: height 8, standoff 7.5, extent -49.269,1.524 -48.768,3.556
3D body: height 8, standoff 7.5, extent -49.276,3.048 -47.244,3.549
3D body: height 8, standoff 7.5, extent -47.752,1.524 -47.252,3.556
3D body: height 7.5, standoff 0, extent -47.752,2.007 -47.727,3.074
3D body: height 7.5, standoff 0, extent -48.793,2.007 -48.768,3.074
3D body: height 7.5, standoff 0, extent -48.793,3.048 -47.727,3.074
3D body: height 7.5, standoff 0, extent -48.793,-0.533 -47.727,-0.508
3D body: height 8, standoff 0, extent -47.269,-1.27 -46.99,1.27
3D body: height 8, standoff 0, extent -49.53,0.991 -46.99,1.27
3D body: height 0, standoff -2.03, extent -48.387,-0.254 -48.133,0.254
3D body: height 8, standoff 0, extent -49.53,-1.27 -46.99,-0.99
3D body: height 7, standoff 0, extent -48.794,-0.533 -47.727,-0.482
3D body: height 7, standoff 0, extent -47.778,-0.533 -47.727,0.534
3D body: height 7, standoff 0, extent -48.794,0.483 -47.727,0.534
3D body: height 7, standoff 0, extent -48.794,-0.533 -48.743,0.534
3D body: height 1, standoff 0, extent -48.895,-0.635 -47.625,0.635
3D body: height 8, standoff 0, extent -49.53,-1.27 -49.251,1.27
3D body: height 8, standoff 7.5, extent -49.251,-1.008 -47.219,-0.508
3D body: height 8, standoff 7.5, extent -49.269,-1.016 -48.768,1.016
3D body: height 8, standoff 7.5, extent -49.276,0.508 -47.244,1.009
3D body: height 8, standoff 7.5, extent -47.752,-1.016 -47.252,1.016
3D body: height 7.5, standoff 0, extent -47.752,-0.533 -47.727,0.534
3D body: height 7.5, standoff 0, extent -48.793,-0.533 -48.768,0.534
3D body: height 7.5, standoff 0, extent -48.793,0.508 -47.727,0.534
3D body: height 7.5, standoff 0, extent -48.793,-3.073 -47.727,-3.048
3D body: height 8, standoff 0, extent -47.269,-3.81 -46.99,-1.27
3D body: height 8, standoff 0, extent -49.53,-1.549 -46.99,-1.27
3D body: height 0, standoff -2.03, extent -48.387,-2.794 -48.133,-2.286
3D body: height 8, standoff 0, extent -49.53,-3.81 -46.99,-3.53
3D body: height 7, standoff 0, extent -48.794,-3.073 -47.727,-3.022
3D body: height 7, standoff 0, extent -47.778,-3.073 -47.727,-2.006
3D body: height 7, standoff 0, extent -48.794,-2.057 -47.727,-2.006
3D body: height 7, standoff 0, extent -48.794,-3.073 -48.743,-2.006
3D body: height 1, standoff 0, extent -48.895,-3.175 -47.625,-1.905
3D body: height 8, standoff 0, extent -49.53,-3.81 -49.251,-1.27
3D body: height 8, standoff 7.5, extent -49.251,-3.548 -47.219,-3.048
3D body: height 8, standoff 7.5, extent -49.269,-3.556 -48.768,-1.524
3D body: height 8, standoff 7.5, extent -49.276,-2.032 -47.244,-1.531
3D body: height 8, standoff 7.5, extent -47.752,-3.556 -47.252,-1.524
3D body: height 7.5, standoff 0, extent -47.752,-3.073 -47.727,-2.006
3D body: height 7.5, standoff 0, extent -48.793,-3.073 -48.768,-2.006
3D body: height 7.5, standoff 0, extent -48.793,-2.032 -47.727,-2.006
3D body: height 7.5, standoff 0, extent -48.793,-5.613 -47.727,-5.588
3D body: height 8, standoff 0, extent -47.269,-6.35 -46.99,-3.81
3D body: height 8, standoff 0, extent -49.53,-4.089 -46.99,-3.81
3D body: height 0, standoff -2.03, extent -48.387,-5.334 -48.133,-4.826
3D body: height 8, standoff 0, extent -49.53,-6.35 -46.99,-6.07
3D body: height 7, standoff 0, extent -48.794,-5.613 -47.727,-5.562
3D body: height 7, standoff 0, extent -47.778,-5.613 -47.727,-4.546
3D body: height 7, standoff 0, extent -48.794,-4.597 -47.727,-4.546
3D body: height 7, standoff 0, extent -48.794,-5.613 -48.743,-4.546
3D body: height 1, standoff 0, extent -48.895,-5.715 -47.625,-4.445
3D body: height 8, standoff 0, extent -49.53,-6.35 -49.251,-3.81
3D body: height 8, standoff 7.5, extent -49.251,-6.088 -47.219,-5.588
3D body: height 8, standoff 7.5, extent -49.269,-6.096 -48.768,-4.064
3D body: height 8, standoff 7.5, extent -49.276,-4.572 -47.244,-4.071
3D body: height 8, standoff 7.5, extent -47.752,-6.096 -47.252,-4.064
3D body: height 7.5, standoff 0, extent -47.752,-5.613 -47.727,-4.546
3D body: height 7.5, standoff 0, extent -48.793,-5.613 -48.768,-4.546
3D body: height 7.5, standoff 0, extent -48.793,-4.572 -47.727,-4.546
3D body: height 7.5, standoff 0, extent -0.533,25.908 0.533,25.934
3D body: height 7.5, standoff 0, extent -0.533,24.867 -0.508,25.934
3D body: height 7.5, standoff 0, extent 0.508,24.867 0.533,25.934
3D body: height 8, standoff 7.5, extent 0.508,24.384 1.008,26.416
3D body: height 8, standoff 7.5, extent -1.016,25.908 1.016,26.409
3D body: height 8, standoff 7.5, extent -1.009,24.384 -0.508,26.416
3D body: height 8, standoff 7.5, extent -0.991,24.392 1.041,24.892
3D body: height 8, standoff 0, extent -1.27,24.13 -0.991,26.67
3D body: height 1, standoff 0, extent -0.635,24.765 0.635,26.035
3D body: height 7, standoff 0, extent -0.534,24.867 -0.483,25.934
3D body: height 7, standoff 0, extent -0.534,25.883 0.533,25.934
3D body: height 7, standoff 0, extent 0.482,24.867 0.533,25.934
3D body: height 7, standoff 0, extent -0.534,24.867 0.533,24.918
3D body: height 8, standoff 0, extent -1.27,24.13 1.27,24.41
3D body: height 0, standoff -2.03, extent -0.127,25.146 0.127,25.654
3D body: height 8, standoff 0, extent -1.27,26.391 1.27,26.67
3D body: height 8, standoff 0, extent 0.991,24.13 1.27,26.67
3D body: height 7.5, standoff 0, extent -0.533,24.867 0.533,24.892
3D body: height 7.5, standoff 0, extent -0.533,23.368 0.533,23.394
3D body: height 7.5, standoff 0, extent -0.533,22.327 -0.508,23.394
3D body: height 7.5, standoff 0, extent 0.508,22.327 0.533,23.394
3D body: height 8, standoff 7.5, extent 0.508,21.844 1.008,23.876
3D body: height 8, standoff 7.5, extent -1.016,23.368 1.016,23.869
3D body: height 8, standoff 7.5, extent -1.009,21.844 -0.508,23.876
3D body: height 8, standoff 7.5, extent -0.991,21.852 1.041,22.352
3D body: height 8, standoff 0, extent -1.27,21.59 -0.991,24.13
3D body: height 1, standoff 0, extent -0.635,22.225 0.635,23.495
3D body: height 7, standoff 0, extent -0.534,22.327 -0.483,23.394
3D body: height 7, standoff 0, extent -0.534,23.343 0.533,23.394
3D body: height 7, standoff 0, extent 0.482,22.327 0.533,23.394
3D body: height 7, standoff 0, extent -0.534,22.327 0.533,22.378
3D body: height 8, standoff 0, extent -1.27,21.59 1.27,21.87
3D body: height 0, standoff -2.03, extent -0.127,22.606 0.127,23.114
3D body: height 8, standoff 0, extent -1.27,23.851 1.27,24.13
3D body: height 8, standoff 0, extent 0.991,21.59 1.27,24.13
3D body: height 7.5, standoff 0, extent -0.533,22.327 0.533,22.352
3D body: height 7.5, standoff 0, extent -0.533,30.988 0.533,31.014
3D body: height 7.5, standoff 0, extent -0.533,29.947 -0.508,31.014
3D body: height 7.5, standoff 0, extent 0.508,29.947 0.533,31.014
3D body: height 8, standoff 7.5, extent 0.508,29.464 1.008,31.496
3D body: height 8, standoff 7.5, extent -1.016,30.988 1.016,31.489
3D body: height 8, standoff 7.5, extent -1.009,29.464 -0.508,31.496
3D body: height 8, standoff 7.5, extent -0.991,29.472 1.041,29.972
3D body: height 8, standoff 0, extent -1.27,29.21 -0.991,31.75
3D body: height 1, standoff 0, extent -0.635,29.845 0.635,31.115
3D body: height 7, standoff 0, extent -0.534,29.947 -0.483,31.014
3D body: height 7, standoff 0, extent -0.534,30.963 0.533,31.014
3D body: height 7, standoff 0, extent 0.482,29.947 0.533,31.014
3D body: height 7, standoff 0, extent -0.534,29.947 0.533,29.998
3D body: height 8, standoff 0, extent -1.27,29.21 1.27,29.49
3D body: height 0, standoff -2.03, extent -0.127,30.226 0.127,30.734
3D body: height 8, standoff 0, extent -1.27,31.471 1.27,31.75
3D body: height 8, standoff 0, extent 0.991,29.21 1.27,31.75
3D body: height 7.5, standoff 0, extent -0.533,29.947 0.533,29.972
3D body: height 7.5, standoff 0, extent -0.533,28.448 0.533,28.474
3D body: height 7.5, standoff 0, extent -0.533,27.407 -0.508,28.474
3D body: height 7.5, standoff 0, extent 0.508,27.407 0.533,28.474
3D body: height 8, standoff 7.5, extent 0.508,26.924 1.008,28.956
3D body: height 8, standoff 7.5, extent -1.016,28.448 1.016,28.949
3D body: height 8, standoff 7.5, extent -1.009,26.924 -0.508,28.956
3D body: height 8, standoff 7.5, extent -0.991,26.932 1.041,27.432
3D body: height 8, standoff 0, extent -1.27,26.67 -0.991,29.21
3D body: height 1, standoff 0, extent -0.635,27.305 0.635,28.575
3D body: height 7, standoff 0, extent -0.534,27.407 -0.483,28.474
3D body: height 7, standoff 0, extent -0.534,28.423 0.533,28.474
3D body: height 7, standoff 0, extent 0.482,27.407 0.533,28.474
3D body: height 7, standoff 0, extent -0.534,27.407 0.533,27.458
3D body: height 8, standoff 0, extent -1.27,26.67 1.27,26.95
3D body: height 0, standoff -2.03, extent -0.127,27.686 0.127,28.194
3D body: height 8, standoff 0, extent -1.27,28.931 1.27,29.21
3D body: height 8, standoff 0, extent 0.991,26.67 1.27,29.21
3D body: height 7.5, standoff 0, extent -0.533,27.407 0.533,27.432
3D body: height 7.5, standoff 0, extent -0.533,36.068 0.533,36.094
3D body: height 7.5, standoff 0, extent -0.533,35.027 -0.508,36.094
3D body: height 7.5, standoff 0, extent 0.508,35.027 0.533,36.094
3D body: height 8, standoff 7.5, extent 0.508,34.544 1.008,36.576
3D body: height 8, standoff 7.5, extent -1.016,36.068 1.016,36.569
3D body: height 8, standoff 7.5, extent -1.009,34.544 -0.508,36.576
3D body: height 8, standoff 7.5, extent -0.991,34.552 1.041,35.052
3D body: height 8, standoff 0, extent -1.27,34.29 -0.991,36.83
3D body: height 1, standoff 0, extent -0.635,34.925 0.635,36.195
3D body: height 7, standoff 0, extent -0.534,35.027 -0.483,36.094
3D body: height 7, standoff 0, extent -0.534,36.043 0.533,36.094
3D body: height 7, standoff 0, extent 0.482,35.027 0.533,36.094
3D body: height 7, standoff 0, extent -0.534,35.027 0.533,35.078
3D body: height 8, standoff 0, extent -1.27,34.29 1.27,34.57
3D body: height 0, standoff -2.03, extent -0.127,35.306 0.127,35.814
3D body: height 8, standoff 0, extent -1.27,36.551 1.27,36.83
3D body: height 8, standoff 0, extent 0.991,34.29 1.27,36.83
3D body: height 7.5, standoff 0, extent -0.533,35.027 0.533,35.052
3D body: height 7.5, standoff 0, extent -0.533,33.528 0.533,33.554
3D body: height 7.5, standoff 0, extent -0.533,32.487 -0.508,33.554
3D body: height 7.5, standoff 0, extent 0.508,32.487 0.533,33.554
3D body: height 8, standoff 7.5, extent 0.508,32.004 1.008,34.036
3D body: height 8, standoff 7.5, extent -1.016,33.528 1.016,34.029
3D body: height 8, standoff 7.5, extent -1.009,32.004 -0.508,34.036
3D body: height 8, standoff 7.5, extent -0.991,32.012 1.041,32.512
3D body: height 8, standoff 0, extent -1.27,31.75 -0.991,34.29
3D body: height 1, standoff 0, extent -0.635,32.385 0.635,33.655
3D body: height 7, standoff 0, extent -0.534,32.487 -0.483,33.554
3D body: height 7, standoff 0, extent -0.534,33.503 0.533,33.554
3D body: height 7, standoff 0, extent 0.482,32.487 0.533,33.554
3D body: height 7, standoff 0, extent -0.534,32.487 0.533,32.538
3D body: height 8, standoff 0, extent -1.27,31.75 1.27,32.03
3D body: height 0, standoff -2.03, extent -0.127,32.766 0.127,33.274
3D body: height 8, standoff 0, extent -1.27,34.011 1.27,34.29
3D body: height 8, standoff 0, extent 0.991,31.75 1.27,34.29
3D body: height 7.5, standoff 0, extent -0.533,32.487 0.533,32.512
3D body: height 7.5, standoff 0, extent -0.533,41.148 0.533,41.174
3D body: height 7.5, standoff 0, extent -0.533,40.107 -0.508,41.174
3D body: height 7.5, standoff 0, extent 0.508,40.107 0.533,41.174
3D body: height 8, standoff 7.5, extent 0.508,39.624 1.008,41.656
3D body: height 8, standoff 7.5, extent -1.016,41.148 1.016,41.649
3D body: height 8, standoff 7.5, extent -1.009,39.624 -0.508,41.656
3D body: height 8, standoff 7.5, extent -0.991,39.632 1.041,40.132
3D body: height 8, standoff 0, extent -1.27,39.37 -0.991,41.91
3D body: height 1, standoff 0, extent -0.635,40.005 0.635,41.275
3D body: height 7, standoff 0, extent -0.534,40.107 -0.483,41.174
3D body: height 7, standoff 0, extent -0.534,41.123 0.533,41.174
3D body: height 7, standoff 0, extent 0.482,40.107 0.533,41.174
3D body: height 7, standoff 0, extent -0.534,40.107 0.533,40.158
3D body: height 8, standoff 0, extent -1.27,39.37 1.27,39.65
3D body: height 0, standoff -2.03, extent -0.127,40.386 0.127,40.894
3D body: height 8, standoff 0, extent -1.27,41.631 1.27,41.91
3D body: height 8, standoff 0, extent 0.991,39.37 1.27,41.91
3D body: height 7.5, standoff 0, extent -0.533,40.107 0.533,40.132
3D body: height 7.5, standoff 0, extent -0.533,38.608 0.533,38.634
3D body: height 7.5, standoff 0, extent -0.533,37.567 -0.508,38.634
3D body: height 7.5, standoff 0, extent 0.508,37.567 0.533,38.634
3D body: height 8, standoff 7.5, extent 0.508,37.084 1.008,39.116
3D body: height 8, standoff 7.5, extent -1.016,38.608 1.016,39.109
3D body: height 8, standoff 7.5, extent -1.009,37.084 -0.508,39.116
3D body: height 8, standoff 7.5, extent -0.991,37.092 1.041,37.592
3D body: height 8, standoff 0, extent -1.27,36.83 -0.991,39.37
3D body: height 1, standoff 0, extent -0.635,37.465 0.635,38.735
3D body: height 7, standoff 0, extent -0.534,37.567 -0.483,38.634
3D body: height 7, standoff 0, extent -0.534,38.583 0.533,38.634
3D body: height 7, standoff 0, extent 0.482,37.567 0.533,38.634
3D body: height 7, standoff 0, extent -0.534,37.567 0.533,37.618
3D body: height 8, standoff 0, extent -1.27,36.83 1.27,37.11
3D body: height 0, standoff -2.03, extent -0.127,37.846 0.127,38.354
3D body: height 8, standoff 0, extent -1.27,39.091 1.27,39.37
3D body: height 8, standoff 0, extent 0.991,36.83 1.27,39.37
3D body: height 7.5, standoff 0, extent -0.533,37.567 0.533,37.592
3D body: height 7.5, standoff 0, extent -0.533,14.707 0.533,14.732
3D body: height 8, standoff 0, extent 0.991,13.97 1.27,16.51
3D body: height 8, standoff 0, extent -1.27,16.231 1.27,16.51
3D body: height 0, standoff -2.03, extent -0.127,14.986 0.127,15.494
3D body: height 8, standoff 0, extent -1.27,13.97 1.27,14.25
3D body: height 7, standoff 0, extent -0.534,14.707 0.533,14.758
3D body: height 7, standoff 0, extent 0.482,14.707 0.533,15.774
3D body: height 7, standoff 0, extent -0.534,15.723 0.533,15.774
3D body: height 7, standoff 0, extent -0.534,14.707 -0.483,15.774
3D body: height 1, standoff 0, extent -0.635,14.605 0.635,15.875
3D body: height 8, standoff 0, extent -1.27,13.97 -0.991,16.51
3D body: height 8, standoff 7.5, extent -0.991,14.232 1.041,14.732
3D body: height 8, standoff 7.5, extent -1.009,14.224 -0.508,16.256
3D body: height 8, standoff 7.5, extent -1.016,15.748 1.016,16.249
3D body: height 8, standoff 7.5, extent 0.508,14.224 1.008,16.256
3D body: height 7.5, standoff 0, extent 0.508,14.707 0.533,15.774
3D body: height 7.5, standoff 0, extent -0.533,14.707 -0.508,15.774
3D body: height 7.5, standoff 0, extent -0.533,15.748 0.533,15.774
3D body: height 7.5, standoff 0, extent -0.533,17.247 0.533,17.272
3D body: height 8, standoff 0, extent 0.991,16.51 1.27,19.05
3D body: height 8, standoff 0, extent -1.27,18.771 1.27,19.05
3D body: height 0, standoff -2.03, extent -0.127,17.526 0.127,18.034
3D body: height 8, standoff 0, extent -1.27,16.51 1.27,16.79
3D body: height 7, standoff 0, extent -0.534,17.247 0.533,17.298
3D body: height 7, standoff 0, extent 0.482,17.247 0.533,18.314
3D body: height 7, standoff 0, extent -0.534,18.263 0.533,18.314
3D body: height 7, standoff 0, extent -0.534,17.247 -0.483,18.314
3D body: height 1, standoff 0, extent -0.635,17.145 0.635,18.415
3D body: height 8, standoff 0, extent -1.27,16.51 -0.991,19.05
3D body: height 8, standoff 7.5, extent -0.991,16.772 1.041,17.272
3D body: height 8, standoff 7.5, extent -1.009,16.764 -0.508,18.796
3D body: height 8, standoff 7.5, extent -1.016,18.288 1.016,18.789
3D body: height 8, standoff 7.5, extent 0.508,16.764 1.008,18.796
3D body: height 7.5, standoff 0, extent 0.508,17.247 0.533,18.314
3D body: height 7.5, standoff 0, extent -0.533,17.247 -0.508,18.314
3D body: height 7.5, standoff 0, extent -0.533,18.288 0.533,18.314
3D body: height 7.5, standoff 0, extent -0.533,9.627 0.533,9.652
3D body: height 8, standoff 0, extent 0.991,8.89 1.27,11.43
3D body: height 8, standoff 0, extent -1.27,11.151 1.27,11.43
3D body: height 0, standoff -2.03, extent -0.127,9.906 0.127,10.414
3D body: height 8, standoff 0, extent -1.27,8.89 1.27,9.17
3D body: height 7, standoff 0, extent -0.534,9.627 0.533,9.678
3D body: height 7, standoff 0, extent 0.482,9.627 0.533,10.694
3D body: height 7, standoff 0, extent -0.534,10.643 0.533,10.694
3D body: height 7, standoff 0, extent -0.534,9.627 -0.483,10.694
3D body: height 1, standoff 0, extent -0.635,9.525 0.635,10.795
3D body: height 8, standoff 0, extent -1.27,8.89 -0.991,11.43
3D body: height 8, standoff 7.5, extent -0.991,9.152 1.041,9.652
3D body: height 8, standoff 7.5, extent -1.009,9.144 -0.508,11.176
3D body: height 8, standoff 7.5, extent -1.016,10.668 1.016,11.169
3D body: height 8, standoff 7.5, extent 0.508,9.144 1.008,11.176
3D body: height 7.5, standoff 0, extent 0.508,9.627 0.533,10.694
3D body: height 7.5, standoff 0, extent -0.533,9.627 -0.508,10.694
3D body: height 7.5, standoff 0, extent -0.533,10.668 0.533,10.694
3D body: height 7.5, standoff 0, extent -0.533,12.167 0.533,12.192
3D body: height 8, standoff 0, extent 0.991,11.43 1.27,13.97
3D body: height 8, standoff 0, extent -1.27,13.691 1.27,13.97
3D body: height 0, standoff -2.03, extent -0.127,12.446 0.127,12.954
3D body: height 8, standoff 0, extent -1.27,11.43 1.27,11.71
3D body: height 7, standoff 0, extent -0.534,12.167 0.533,12.218
3D body: height 7, standoff 0, extent 0.482,12.167 0.533,13.234
3D body: height 7, standoff 0, extent -0.534,13.183 0.533,13.234
3D body: height 7, standoff 0, extent -0.534,12.167 -0.483,13.234
3D body: height 1, standoff 0, extent -0.635,12.065 0.635,13.335
3D body: height 8, standoff 0, extent -1.27,11.43 -0.991,13.97
3D body: height 8, standoff 7.5, extent -0.991,11.692 1.041,12.192
3D body: height 8, standoff 7.5, extent -1.009,11.684 -0.508,13.716
3D body: height 8, standoff 7.5, extent -1.016,13.208 1.016,13.709
3D body: height 8, standoff 7.5, extent 0.508,11.684 1.008,13.716
3D body: height 7.5, standoff 0, extent 0.508,12.167 0.533,13.234
3D body: height 7.5, standoff 0, extent -0.533,12.167 -0.508,13.234
3D body: height 7.5, standoff 0, extent -0.533,13.208 0.533,13.234
3D body: height 7.5, standoff 0, extent -0.533,4.547 0.533,4.572
3D body: height 8, standoff 0, extent 0.991,3.81 1.27,6.35
3D body: height 8, standoff 0, extent -1.27,6.071 1.27,6.35
3D body: height 0, standoff -2.03, extent -0.127,4.826 0.127,5.334
3D body: height 8, standoff 0, extent -1.27,3.81 1.27,4.09
3D body: height 7, standoff 0, extent -0.534,4.547 0.533,4.598
3D body: height 7, standoff 0, extent 0.482,4.547 0.533,5.614
3D body: height 7, standoff 0, extent -0.534,5.563 0.533,5.614
3D body: height 7, standoff 0, extent -0.534,4.547 -0.483,5.614
3D body: height 1, standoff 0, extent -0.635,4.445 0.635,5.715
3D body: height 8, standoff 0, extent -1.27,3.81 -0.991,6.35
3D body: height 8, standoff 7.5, extent -0.991,4.072 1.041,4.572
3D body: height 8, standoff 7.5, extent -1.009,4.064 -0.508,6.096
3D body: height 8, standoff 7.5, extent -1.016,5.588 1.016,6.089
3D body: height 8, standoff 7.5, extent 0.508,4.064 1.008,6.096
3D body: height 7.5, standoff 0, extent 0.508,4.547 0.533,5.614
3D body: height 7.5, standoff 0, extent -0.533,4.547 -0.508,5.614
3D body: height 7.5, standoff 0, extent -0.533,5.588 0.533,5.614
3D body: height 7.5, standoff 0, extent -0.533,7.087 0.533,7.112
3D body: height 8, standoff 0, extent 0.991,6.35 1.27,8.89
3D body: height 8, standoff 0, extent -1.27,8.611 1.27,8.89
3D body: height 0, standoff -2.03, extent -0.127,7.366 0.127,7.874
3D body: height 8, standoff 0, extent -1.27,6.35 1.27,6.63
3D body: height 7, standoff 0, extent -0.534,7.087 0.533,7.138
3D body: height 7, standoff 0, extent 0.482,7.087 0.533,8.154
3D body: height 7, standoff 0, extent -0.534,8.103 0.533,8.154
3D body: height 7, standoff 0, extent -0.534,7.087 -0.483,8.154
3D body: height 1, standoff 0, extent -0.635,6.985 0.635,8.255
3D body: height 8, standoff 0, extent -1.27,6.35 -0.991,8.89
3D body: height 8, standoff 7.5, extent -0.991,6.612 1.041,7.112
3D body: height 8, standoff 7.5, extent -1.009,6.604 -0.508,8.636
3D body: height 8, standoff 7.5, extent -1.016,8.128 1.016,8.629
3D body: height 8, standoff 7.5, extent 0.508,6.604 1.008,8.636
3D body: height 7.5, standoff 0, extent 0.508,7.087 0.533,8.154
3D body: height 7.5, standoff 0, extent -0.533,7.087 -0.508,8.154
3D body: height 7.5, standoff 0, extent -0.533,8.128 0.533,8.154
3D body: height 7.5, standoff 0, extent -0.533,-0.533 0.533,-0.508
3D body: height 8, standoff 0, extent 0.991,-1.27 1.27,1.27
3D body: height 8, standoff 0, extent -1.27,0.991 1.27,1.27
3D body: height 0, standoff -2.03, extent -0.127,-0.254 0.127,0.254
3D body: height 8, standoff 0, extent -1.27,-1.27 1.27,-0.99
3D body: height 7, standoff 0, extent -0.534,-0.533 0.533,-0.482
3D body: height 7, standoff 0, extent 0.482,-0.533 0.533,0.534
3D body: height 7, standoff 0, extent -0.534,0.483 0.533,0.534
3D body: height 7, standoff 0, extent -0.534,-0.533 -0.483,0.534
3D body: height 1, standoff 0, extent -0.635,-0.635 0.635,0.635
3D body: height 8, standoff 0, extent -1.27,-1.27 -0.991,1.27
3D body: height 8, standoff 7.5, extent -0.991,-1.008 1.041,-0.508
3D body: height 8, standoff 7.5, extent -1.009,-1.016 -0.508,1.016
3D body: height 8, standoff 7.5, extent -1.016,0.508 1.016,1.009
3D body: height 8, standoff 7.5, extent 0.508,-1.016 1.008,1.016
3D body: height 7.5, standoff 0, extent 0.508,-0.533 0.533,0.534
3D body: height 7.5, standoff 0, extent -0.533,-0.533 -0.508,0.534
3D body: height 7.5, standoff 0, extent -0.533,0.508 0.533,0.534
3D body: height 7.5, standoff 0, extent -0.533,2.007 0.533,2.032
3D body: height 8, standoff 0, extent 0.991,1.27 1.27,3.81
3D body: height 8, standoff 0, extent -1.27,3.531 1.27,3.81
3D body: height 0, standoff -2.03, extent -0.127,2.286 0.127,2.794
3D body: height 8, standoff 0, extent -1.27,1.27 1.27,1.55
3D body: height 7, standoff 0, extent -0.534,2.007 0.533,2.058
3D body: height 7, standoff 0, extent 0.482,2.007 0.533,3.074
3D body: height 7, standoff 0, extent -0.534,3.023 0.533,3.074
3D body: height 7, standoff 0, extent -0.534,2.007 -0.483,3.074
3D body: height 1, standoff 0, extent -0.635,1.905 0.635,3.175
3D body: height 8, standoff 0, extent -1.27,1.27 -0.991,3.81
3D body: height 8, standoff 7.5, extent -0.991,1.532 1.041,2.032
3D body: height 8, standoff 7.5, extent -1.009,1.524 -0.508,3.556
3D body: height 8, standoff 7.5, extent -1.016,3.048 1.016,3.549
3D body: height 8, standoff 7.5, extent 0.508,1.524 1.008,3.556
3D body: height 7.5, standoff 0, extent 0.508,2.007 0.533,3.074
3D body: height 7.5, standoff 0, extent -0.533,2.007 -0.508,3.074
3D body: height 7.5, standoff 0, extent -0.533,3.048 0.533,3.074